# Altium footprint library IC-LINEAR.PcbLib: 1 footprints
Each footprint in its own frame and in the unit in brackets; x right, y up, seen from the top. Pads: shape width x height; smd on the part's side, far side on the other; paste and mask are expansions set on the pad; w line width, h text height; cw(c..) or ccw(c..) is an arc to the next point about the centre after c.
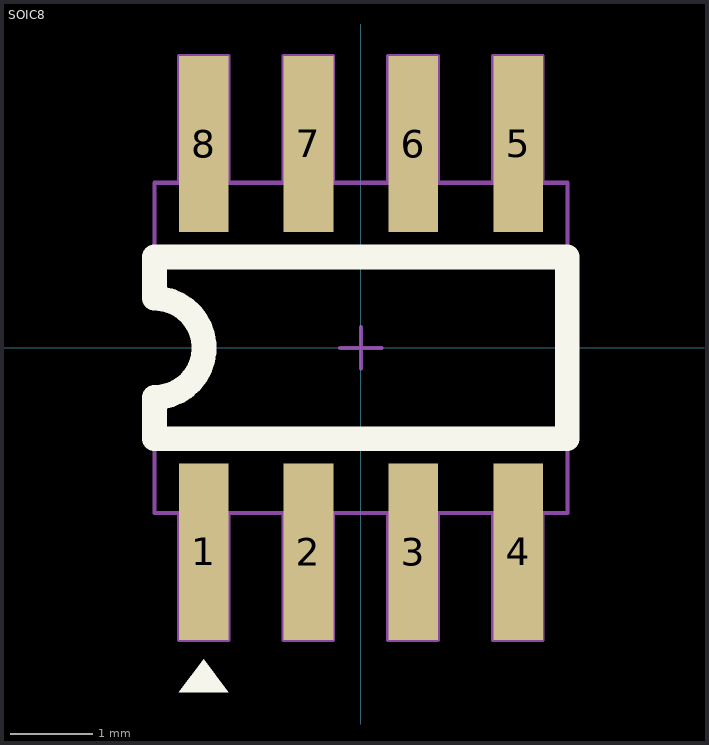
[diagram p0: the footprint, top view; thin cyan lines are the x and y axes]

## SOIC8 [mm] "SOIC8"
height 1.75
pads (8):
  rect 0.6x2.135 smd paste+0.1: 1(-1.905,-2.47) 2(-0.635,-2.47) 3(0.635,-2.47) 4(1.905,-2.47) 5(1.905,2.47) 6(0.635,2.47) 7(-0.635,2.47) 8(-1.905,2.47)
Top Overlay:
  region: -1.905,-3.77 -2.205,-4.17 -1.605,-4.17
  lines w0.3: -2.5,-1.1 -2.5,-0.6 ccw(c-2.5,0) -2.5,0.6 -2.5,1.1 2.5,1.1 2.5,-1.1 -2.5,-1.1
Top HCB:
  lines w0.05: -2.205,-2 -2.205,-3.537 -1.605,-3.537 -1.605,-2 ; -2.205,2 -2.205,3.537 -1.605,3.537 -1.605,2 ; -0.94,-2 -0.94,-3.537 -0.34,-3.537 -0.34,-2 ; -0.94,2 -0.94,3.537 -0.34,3.537 -0.34,2 ; -0.25,0 0,0 0.25,0 ; 0,-0.25 0,0.25 ; 0.33,-2 0.33,-3.537 0.93,-3.537 0.93,-2 ; 0.33,2 0.33,3.537 0.93,3.537 0.93,2 ; 1.6,-2 1.6,-3.537 2.2,-3.537 2.2,-2 ; 1.6,2 1.6,3.537 2.2,3.537 2.2,2 ; -2.5,-2 -2.5,-0.64 ccw(c-2.5,0) -2.5,0.64 -2.5,2 2.5,2 2.5,-2 -2.5,-2
  text "4" at 1.708,-1.905 h1
  text "5" at 1.708,1.305 h1
  text "1" at -2.099,-1.905 h1
  text "8" at -2.099,1.3 h1
3D body "lm393ad.stp": height 1.73, standoff 0, extent -2.401,-3.011 2.5,3.011